# EAGLE library part TPS249* (library lib_ysk)
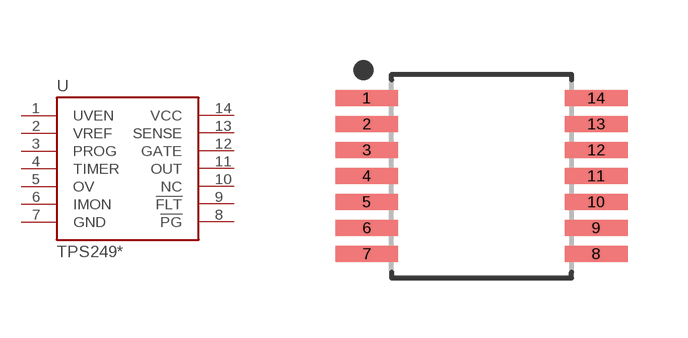
[diagram p1: symbol with the pads of SOP65P640X120-14; footprint SOP65P640X120-14]

Designator prefix U

## TPS249PW  [SOP65P640X120-14]
1  UVEN
2  VREF
3  PROG
4  TIMER
5  OV
6  IMON
7  GND
8  !PG
9  !FLT
10  NC  nc
11  OUT
12  GATE
13  SENSE
14  VCC

## Footprint SOP65P640X120-14 (pad centres in mm)
14-SOP, 0.65 mm pitch, 6.40 mm span, 5.00 X 4.40 X 1.20 mm body 14-pin SOP package with 0.65 mm pitch, 6.40 mm span with body size 5.00 X 4.40 X 1.20 mm
smd 1.572 x 0.407: 1 -2.872,1.95; 2 -2.872,1.3; 3 -2.872,0.65; 4 -2.872,0; 5 -2.872,-0.65; 6 -2.872,-1.3; 7 -2.872,-1.95; 8 2.872,-1.95; 9 2.872,-1.3; 10 2.872,-0.65; 11 2.872,0; 12 2.872,0.65; 13 2.872,1.3; 14 2.872,1.95